# Altium schematic symbol library Schlib1.SchLib: 1 symbol
Pins are listed as number, name and electrical type; pins without a type are passive.

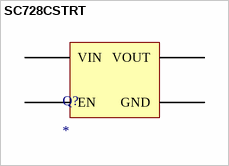
[diagram p0: symbol SC728CSTRT]

## SC728CSTRT
designator Q?
footprint PCBComponent_1
pins: A1 VOUT, A2 VIN, B1 GND, B2 EN